# EAGLE library part PAN1315 (library Bluetooth)
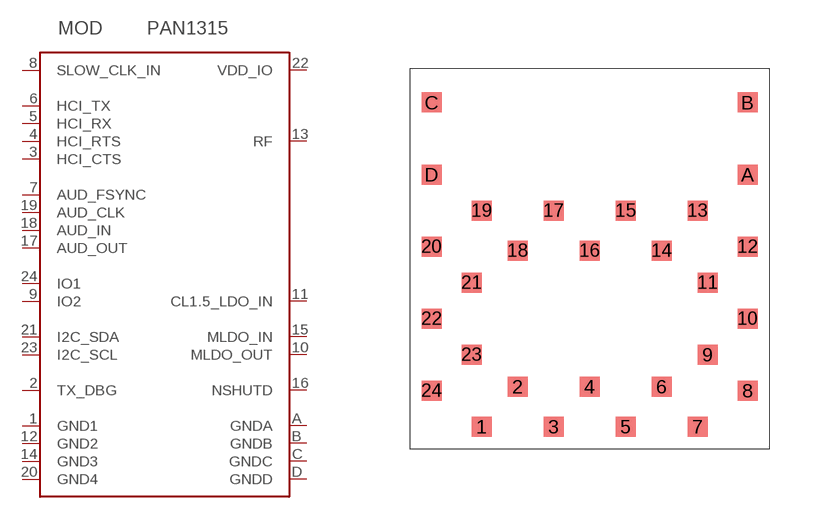
[diagram p0: symbol with the pads of P1325FP; footprint P1325FP]

Designator prefix MOD

## PAN1315  [P1325FP]
1  GND1
2  TX_DBG
3  HCI_CTS
4  HCI_RTS
5  HCI_RX
6  HCI_TX
7  AUD_FSYNC
8  SLOW_CLK_IN
9  IO2
10  MLDO_OUT
11  CL1.5_LDO_IN
12  GND2
13  RF
14  GND3
15  MLDO_IN
16  NSHUTD
17  AUD_OUT
18  AUD_IN
19  AUD_CLK
20  GND4
21  I2C_SDA
22  VDD_IO
23  I2C_SCL
24  IO1
A  GNDA
B  GNDB
C  GNDC
D  GNDD

## Footprint P1325FP (pad centres in mm)
smd 0.5 x 0.5: 1 -2.7,-2.7; 2 -1.8,-1.7; 3 -0.9,-2.7; 4 0,-1.7; 5 0.9,-2.7; 6 1.8,-1.7; 7 2.7,-2.7; 8 3.95,-1.8; 9 2.95,-0.9; 10 3.95,0; 11 2.95,0.9; 12 3.95,1.8; 13 2.7,2.7; 14 1.8,1.7; 15 0.9,2.7; 16 0,1.7; 17 -0.9,2.7; 18 -1.8,1.7; 19 -2.7,2.7; 20 -3.95,1.8; 21 -2.95,0.9; 22 -3.95,0; 23 -2.95,-0.9; 24 -3.95,-1.8; A 3.95,3.6; B 3.95,5.4; C -3.95,5.4; D -3.95,3.6